# EAGLE library part EMMA (library emma)
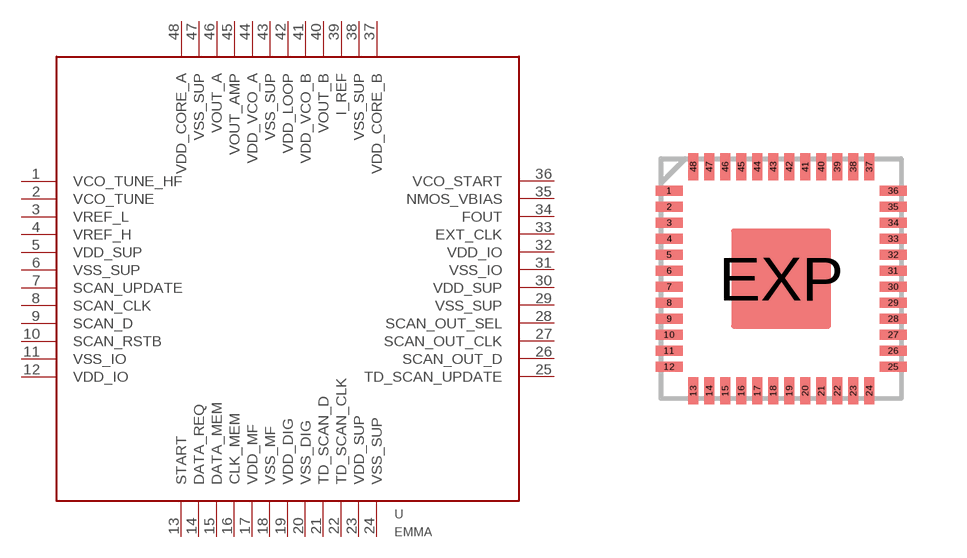
[diagram p0: symbol with the pads of QFN48; footprint QFN48]

Designator prefix -

## EMMA  [QFN48]
1  VCO_TUNE_HF
2  VCO_TUNE
3  VREF_L
4  VREF_H
5  VDD_SUP
6  VSS_SUP
7  SCAN_UPDATE
8  SCAN_CLK
9  SCAN_D
10  SCAN_RSTB
11  VSS_IO
12  VDD_IO
13  START
14  DATA_REQ
15  DATA_MEM
16  CLK_MEM
17  VDD_MF
18  VSS_MF
19  VDD_DIG
20  VSS_DIG
21  TD_SCAN_D
22  TD_SCAN_CLK
23  VDD_SUP
24  VSS_SUP
25  TD_SCAN_UPDATE
26  SCAN_OUT_D
27  SCAN_OUT_CLK
28  SCAN_OUT_SEL
29  VSS_SUP
30  VDD_SUP
31  VSS_IO
32  VDD_IO
33  EXT_CLK
34  FOUT
35  NMOS_VBIAS
36  VCO_START
37  VDD_CORE_B
38  VSS_SUP
39  I_REF
40  VOUT_B
41  VDD_VCO_B
42  VDD_LOOP
43  VSS_SUP
44  VDD_VCO_A
45  VOUT_AMP
46  VOUT_A
47  VSS_SUP
48  VDD_CORE_A

## Footprint QFN48 (pad centres in mm)
48-pin QFN 7 x 7 mm LF48 48 Quad Flat Package No Leads Source: http://v4.cypress.com/cfuploads/img/products/cywusb6934.pdf
smd 0.686 x 0.24: 1 -2.8,2.2; 2 -2.8,1.8; 3 -2.8,1.4; 4 -2.8,1; 5 -2.8,0.6; 6 -2.8,0.2; 7 -2.8,-0.2; 8 -2.8,-0.6; 9 -2.8,-1; 10 -2.8,-1.4; 11 -2.8,-1.8; 12 -2.8,-2.2; 25 2.8,-2.2; 26 2.8,-1.8; 27 2.8,-1.4; 28 2.8,-1; 29 2.8,-0.6; 30 2.8,-0.2; 31 2.8,0.2; 32 2.8,0.6; 33 2.8,1; 34 2.8,1.4; 35 2.8,1.8; 36 2.8,2.2
smd 0.24 x 0.686: 13 -2.2,-2.8; 14 -1.8,-2.8; 15 -1.4,-2.8; 16 -1,-2.8; 17 -0.6,-2.8; 18 -0.2,-2.8; 19 0.2,-2.8; 20 0.6,-2.8; 21 1,-2.8; 22 1.4,-2.8; 23 1.8,-2.8; 24 2.2,-2.8; 37 2.2,2.8; 38 1.8,2.8; 39 1.4,2.8; 40 1,2.8; 41 0.6,2.8; 42 0.2,2.8; 43 -0.2,2.8; 44 -0.6,2.8; 45 -1,2.8; 46 -1.4,2.8; 47 -1.8,2.8; 48 -2.2,2.8
smd 2.5 x 2.5: EXP 0,0